# Altium footprint library SOIC-24_208mil.PcbLib: 1 footprints
Each footprint in its own frame and in the unit in brackets; x right, y up, seen from the top. Pads: shape width x height; smd on the part's side, far side on the other; paste and mask are expansions set on the pad; w line width, h text height; cw(c..) or ccw(c..) is an arc to the next point about the centre after c.
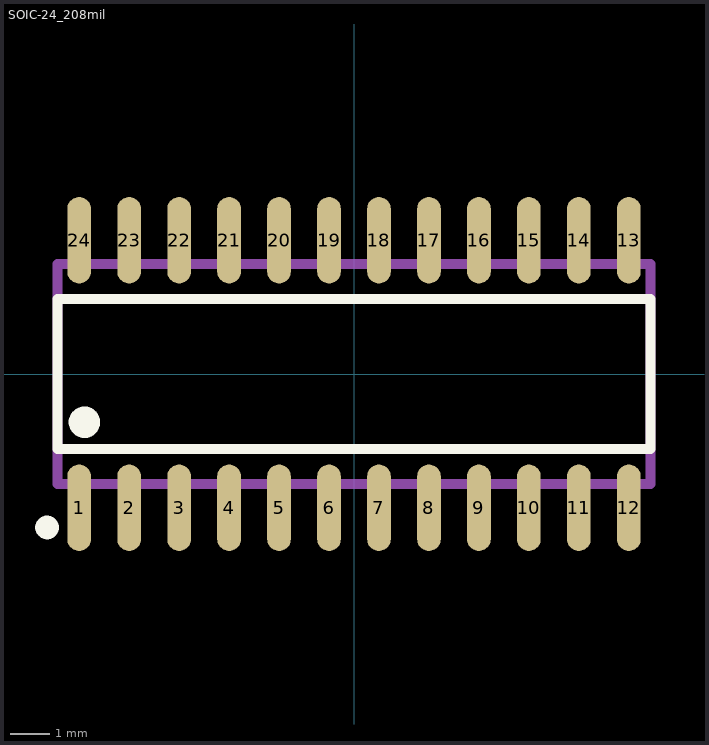
[diagram p0: the footprint, top view; thin cyan lines are the x and y axes]

## SOIC-24_208mil [mm]
pads (24):
  oval 0.6x2.2 smd: 1(-6.985,-3.4) 2(-5.715,-3.4) 3(-4.445,-3.4) 4(-3.175,-3.4) 5(-1.905,-3.4) 6(-0.635,-3.4) 7(0.635,-3.4) 8(1.905,-3.4) 9(3.175,-3.4) 10(4.445,-3.4) 11(5.715,-3.4) 12(6.985,-3.4) 13(6.985,3.4) 14(5.715,3.4) 15(4.445,3.4) 16(3.175,3.4) 17(1.905,3.4) 18(0.635,3.4) 19(-0.635,3.4) 20(-1.905,3.4) 21(-3.175,3.4) 22(-4.445,3.4) 23(-5.715,3.4) 24(-6.985,3.4)
Top Overlay:
  circle w0.3: c-7.8,-3.9 r0.15
  circle w0.4: c-6.85,-1.225 r0.2
  lines w0.254: -7.54,-1.9 7.54,-1.9 7.54,1.9 -7.54,1.9 -7.54,-1.9
Mechanical 13:
  lines w0.254: -7.54,-2.8 7.54,-2.8 7.54,2.8 -7.54,2.8 -7.54,-2.8